# EAGLE library part TDK-ICS43432 (library FaBo-Sound)
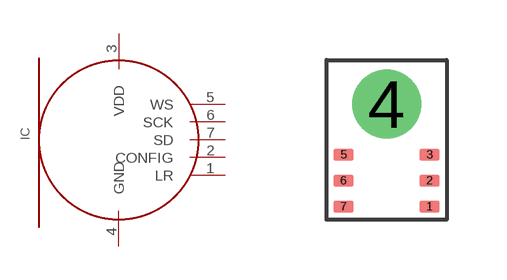
[diagram p1: symbol with the pads of TDK-ICS43432; footprint TDK-ICS43432]

Designator prefix IC

## TDK-ICS43432  [TDK-ICS43432]
1  LR
2  CONFIG
3  VDD
4  GND
5  WS
6  SCK
7  SD

## Footprint TDK-ICS43432 (pad centres in mm)
smd 0.5 x 0.3: 1 1.075,-2.575; 2 1.075,-1.925; 3 1.075,-1.275; 5 -1.075,-1.275; 6 -1.075,-1.925; 7 -1.075,-2.575
drill 1.15 pad 1.65: 4 0,0